# Altium schematic symbol library DTS-63N-V.SchLib: 1 symbol
Pins are listed as number, name and electrical type; pins without a type are passive.

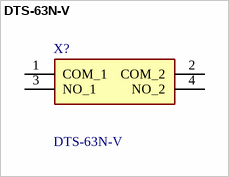
[diagram p0: symbol DTS-63N-V]

## DTS-63N-V
designator X?
6x6 Through Hole & Ground Terminal Type,TS 6MM V H=7.0 160gf BULK; Manufacturer_Name: Diptronics; Geometry.Height: 7mm; Manufacturer_Part_Number: DTS-63N-V; Mouser Part Number: 113-DTS-63N-V; Mouser Price/Stock: https://www.mouser.co.uk/ProductDetail/Diptronics/DTS-63N-V?qs=gTYE2QTfZfThxtJn%252Bv%252BG2g%3D%3D; Arrow Part Number: *; Arrow Price/Stock: *; Datasheet Link: http://www.dip.com.tw/en/en-product-information/en-switch004/item/download/2504_1f511f4f5b826e90b17b1a41bfb6a3ce
footprint DTS63NV
pins: 1 COM_1, 2 COM_2, 3 NO_1, 4 NO_2